# Altium footprint library Led.PcbLib: 10 footprints
Each footprint in its own frame and in the unit in brackets; x right, y up, seen from the top. Pads: shape width x height; smd on the part's side, far side on the other; paste and mask are expansions set on the pad; w line width, h text height; cw(c..) or ccw(c..) is an arc to the next point about the centre after c.
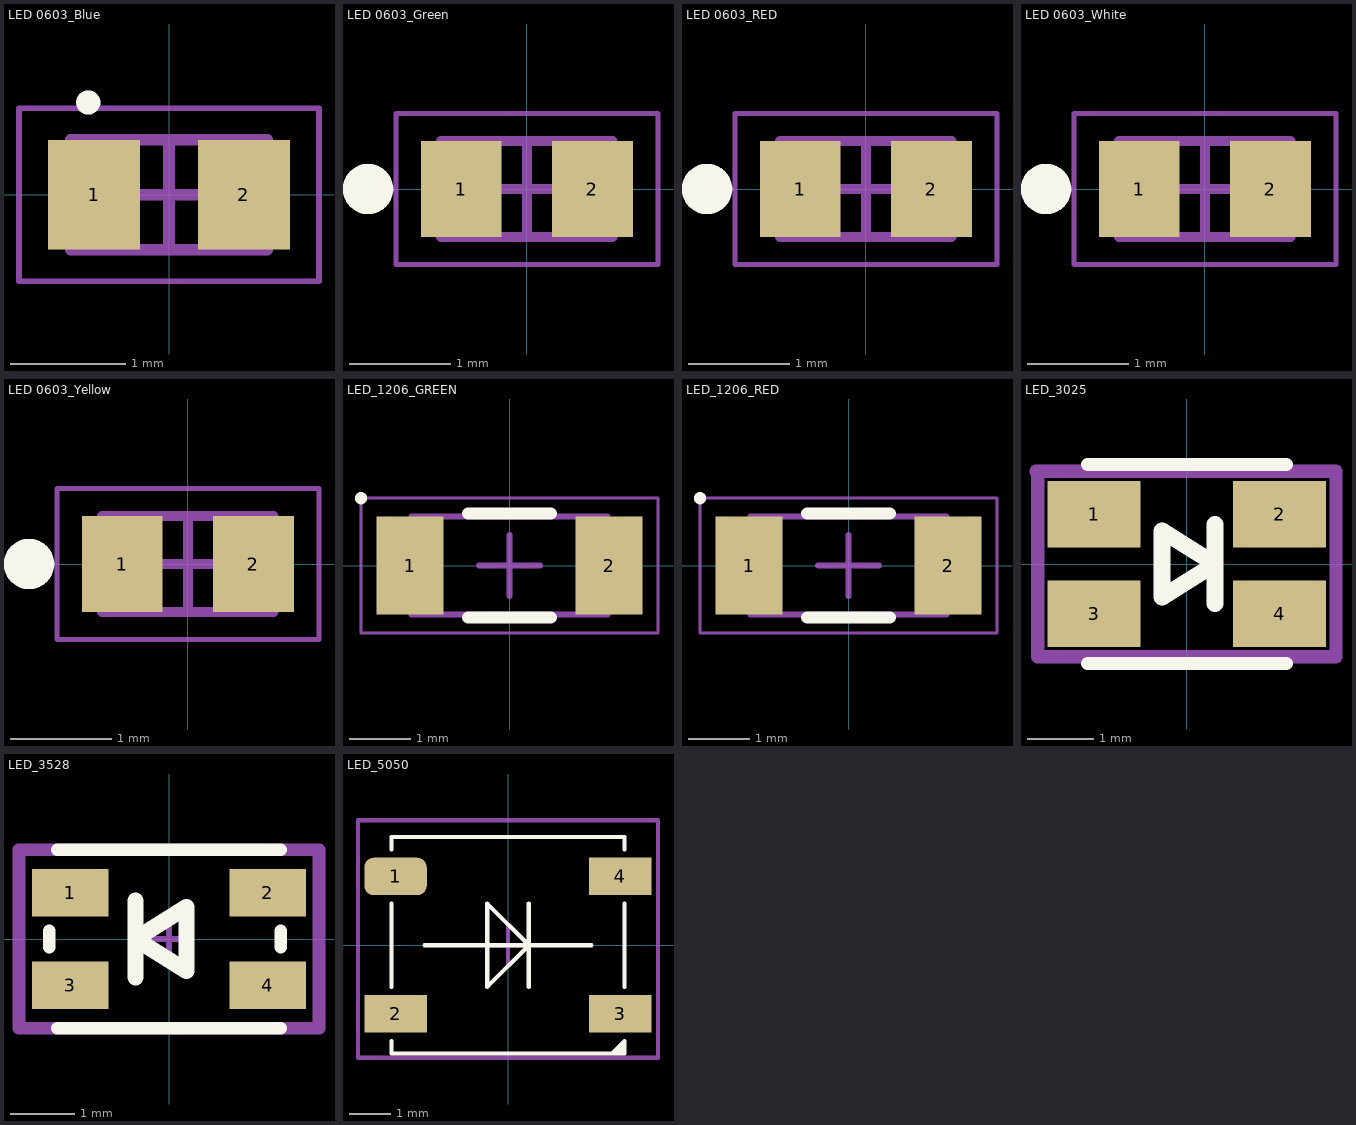
[diagram p0: the footprints below, top view; thin cyan lines are the x and y axes]

## LED 0603_Blue [mm] "Chip LED, 2-Leads, Body 1,60x0,85mm, IPC Medium Density"
height 0.5
pads (2):
  rect 0.8x0.95 smd: 1(-0.65,0) 2(0.65,0)
Top Overlay:
  circle w0.11: c-0.7,0.8 r0.05
Mechanical 13:
  rectangle: -0.85,-0.475 -0.3,0.475
  lines w0.1: -0.85,-0.475 -0.85,0.475 0.85,0.475 0.85,-0.475 -0.85,-0.475
Mechanical 15:
  lines w0.05: -1.3,-0.75 -1.3,0.75 1.3,0.75 1.3,-0.75 -1.3,-0.75
  lines w0.1: -0.475,0 0.475,0 ; 0,-0.475 0,0.475
3D body "User Library-LED_0603_B.STEP": height 0.6, standoff 0, extent -0.8,-0.4 0.8,0.4

## LED 0603_Green [mm] "Chip LED, 2-Leads, Body 1,60x0,85mm, IPC Medium Density"
height 0.5
pads (2):
  rect 0.8x0.95 smd: 1(-0.65,0) 2(0.65,0)
Top Overlay:
  circle w0.3: c-1.575,0 r0.1
Mechanical 13:
  lines w0.1: -0.85,-0.475 0.85,-0.475 0.85,0.475 -0.85,0.475 -0.85,-0.475
Mechanical 15:
  lines w0.05: -1.3,-0.75 1.3,-0.75 1.3,0.75 -1.3,0.75 -1.3,-0.75
  lines w0.1: -0.475,0 0.475,0 ; 0,-0.475 0,0.475
3D body "User Library-LED_0603_G.STEP": height 0.6, standoff 0, extent -0.8,-0.4 0.8,0.4

## LED 0603_RED [mm] "Chip LED, 2-Leads, Body 1,60x0,85mm, IPC Medium Density"
height 0.5
pads (2):
  rect 0.8x0.95 smd: 1(-0.65,0) 2(0.65,0)
Top Overlay:
  circle w0.3: c-1.575,0 r0.1
Mechanical 13:
  lines w0.1: -0.85,-0.475 0.85,-0.475 0.85,0.475 -0.85,0.475 -0.85,-0.475
Mechanical 15:
  lines w0.05: -1.3,-0.75 1.3,-0.75 1.3,0.75 -1.3,0.75 -1.3,-0.75
  lines w0.1: -0.475,0 0.475,0 ; 0,-0.475 0,0.475
3D body "User Library-LED_0603_R.STEP": height 0.6, standoff 0, extent -0.8,-0.4 0.8,0.4

## LED 0603_White [mm] "Chip LED, 2-Leads, Body 1,60x0,85mm, IPC Medium Density"
height 0.5
pads (2):
  rect 0.8x0.95 smd: 1(-0.65,0) 2(0.65,0)
Top Overlay:
  circle w0.3: c-1.575,0 r0.1
Mechanical 13:
  lines w0.1: -0.85,-0.475 0.85,-0.475 0.85,0.475 -0.85,0.475 -0.85,-0.475
Mechanical 15:
  lines w0.05: -1.3,-0.75 1.3,-0.75 1.3,0.75 -1.3,0.75 -1.3,-0.75
  lines w0.1: -0.475,0 0.475,0 ; 0,-0.475 0,0.475
3D body "User Library-LED_0603_WS.STEP": height 0.6, standoff 0, extent -0.8,-0.4 0.8,0.4

## LED 0603_Yellow [mm] "Chip LED, 2-Leads, Body 1,60x0,85mm, IPC Medium Density"
height 0.5
pads (2):
  rect 0.8x0.95 smd: 1(-0.65,0) 2(0.65,0)
Top Overlay:
  circle w0.3: c-1.575,0 r0.1
Mechanical 13:
  lines w0.1: -0.85,-0.475 0.85,-0.475 0.85,0.475 -0.85,0.475 -0.85,-0.475
Mechanical 15:
  lines w0.05: -1.3,-0.75 1.3,-0.75 1.3,0.75 -1.3,0.75 -1.3,-0.75
  lines w0.1: -0.475,0 0.475,0 ; 0,-0.475 0,0.475
3D body "User Library-LED_0603_Y.STEP": height 0.6, standoff 0, extent -0.8,-0.4 0.8,0.4

## LED_1206_GREEN [mm] "Molded Diode, 2-Leads, Body 3,20x1,60mm, IPC Medium Density"
height 1.1
pads (2):
  rect 1.1x1.6 smd: 1(-1.625,0) 2(1.625,0)
Top Overlay:
  circle w0.1: c-2.425,1.1 r0.05
  lines w0.2: -0.675,-0.85 0.675,-0.85 ; -0.675,0.85 0.675,0.85
Mechanical 13:
  rectangle: -1.6,-0.8 -1.17,0.8
  lines w0.1: -1.6,-0.8 -1.6,0.8 1.6,0.8 1.6,-0.8 -1.6,-0.8
Mechanical 15:
  lines w0.05: -2.425,-1.1 -2.425,1.1 2.425,1.1 2.425,-1.1 -2.425,-1.1
  lines w0.1: -0.5,0 0.5,0 ; 0,-0.5 0,0.5
3D body "User Library-LED 1206 BLUE.step": height 1.1, standoff 0, extent -1.6,-0.8 1.6,0.8

## LED_1206_RED [mm] "Molded Diode, 2-Leads, Body 3,20x1,60mm, IPC Medium Density"
height 1.1
pads (2):
  rect 1.1x1.6 smd: 1(-1.625,0) 2(1.625,0)
Top Overlay:
  circle w0.1: c-2.425,1.1 r0.05
  lines w0.2: -0.675,-0.85 0.675,-0.85 ; -0.675,0.85 0.675,0.85
Mechanical 13:
  rectangle: -1.6,-0.8 -1.17,0.8
  lines w0.1: -1.6,-0.8 -1.6,0.8 1.6,0.8 1.6,-0.8 -1.6,-0.8
Mechanical 15:
  lines w0.05: -2.425,-1.1 -2.425,1.1 2.425,1.1 2.425,-1.1 -2.425,-1.1
  lines w0.1: -0.5,0 0.5,0 ; 0,-0.5 0,0.5
3D body "User Library-LED 1206 RED.step": height 1.1, standoff 0, extent -1.6,-0.8 1.6,0.8

## LED_3025 [mm]
pads (4):
  rect 1.4x1 smd: 1(-1.4,0.75) 2(1.4,0.75) 3(-1.4,-0.75) 4(1.4,-0.75)
Top Overlay:
  lines w0.2: -1.5,-1.5 1.5,-1.5 ; -1.5,1.5 1.5,1.5
  lines w0.254: 0.425,-0.6 0.425,0.6 0.425,0 ; 0.425,0 -0.375,-0.5 -0.375,0.5 0.425,0
Mechanical 15:
  lines w0.2: -2.275,1.4 2.25,1.4 2.25,-1.4 -2.25,-1.4 -2.25,1.375
3D body "User Library-led_bicolor_kpb-3025.STEP": height 1.1, standoff 0, extent -1.5,-1.25 1.5,1.25

## LED_3528 [mm]
pads (4):
  rect 1.2x0.75 smd: 1(-1.55,0.725) 2(1.55,0.725) 3(-1.55,-0.725) 4(1.55,-0.725)
Top Overlay:
  lines w0.2: -1.875,-0.125 -1.875,0.125 ; -1.75,-1.4 1.75,-1.4 ; -1.75,1.4 1.75,1.4 ; 1.75,-0.125 1.75,0.125
  lines w0.254: -0.525,0.6 -0.525,-0.6 -0.525,0 ; -0.525,0 0.275,0.5 0.275,-0.5 -0.525,0
Mechanical 15:
  lines w0.1: -0.275,0 0.25,0 ; 0,-0.25 0,0.25
  lines w0.2: -2.35,-1.4 2.35,-1.4 2.35,1.4 -2.35,1.4 -2.35,-1.4
3D body "User Library-KAA-3528.step": height 1.9, standoff 0, extent -1.75,-1.4 1.75,1.4

## LED_5050 [mm]
pads (4):
  rrect50% 1.5x0.9 smd: 1(-2.7,1.65)
  rect 1.5x0.9 smd: 2(-2.7,-1.65) 3(2.7,-1.65) 4(2.7,1.65)
Top Overlay:
  region: 2.8,-2.3 2.8,-2.6 2.5,-2.6 2.65,-2.45
  lines w0.1: -2.8,-2.3 -2.8,-2.6 2.8,-2.6 2.8,-2.3 2.5,-2.6 ; -2.8,-1 -2.8,1 ; -2.8,2.3 -2.8,2.6 2.8,2.6 2.8,2.3 ; 0.5,-1 0.5,1 ; 1,0 -1,0 -2,0 2,0 ; 2.8,-1 2.8,1 ; -0.5,-1 0.5,0 -0.5,1 -0.5,-1
Mechanical 15:
  lines w0.1: -0.5,0 0.5,0 ; 0,-0.5 0,0.5 ; -3.6,-2.7 -3.6,3 3.6,3 3.6,-2.7 -3.6,-2.7
3D body "User Library-ws2812B-1.step": height 1.6, standoff 0.03, extent -2.7,-2.5 2.7,2.5